# EAGLE library part MP2225 (library NEON-BLADE-2023)
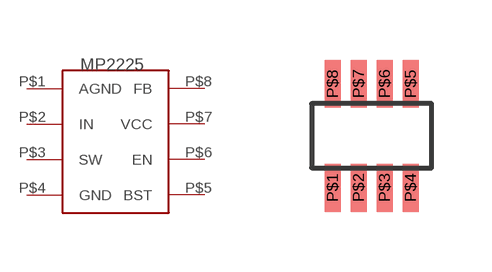
[diagram p21: symbol with the pads of TSOT23-8; footprint TSOT23-8]

Designator prefix -

## MP2225  [TSOT23-8]
P$1  AGND
P$2  IN
P$3  SW
P$4  GND
P$5  BST
P$6  EN
P$7  VCC
P$8  FB

## Footprint TSOT23-8 (pad centres in mm)
smd 0.4 x 1.2: P$1 -0.975,-1.3; P$2 -0.325,-1.3; P$3 0.325,-1.3; P$4 0.975,-1.3; P$5 0.975,1.3; P$6 0.325,1.3; P$7 -0.325,1.3; P$8 -0.975,1.3